# EAGLE library part LM22675 (library national-semi)
SIMPLE SWITCHER® 1A Step-Down Voltage Regulator
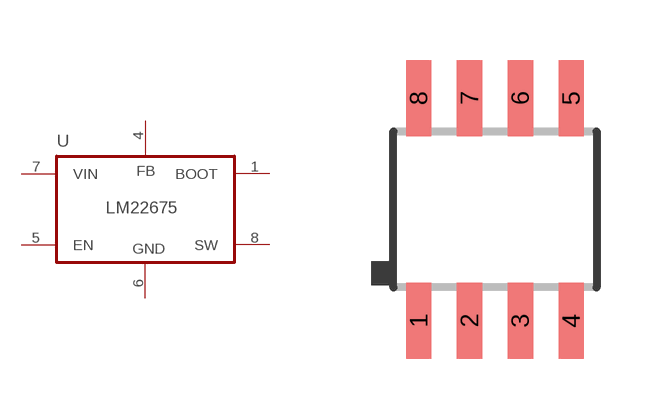
[diagram p4: symbol with the pads of PSOP8; footprint PSOP8]

Designator prefix U

## LM22675  [PSOP8]
1  BOOT  pas
4  FB  pas
5  EN  pas
6  GND  pwr
7  VIN  in
8  SW  out

## Footprint PSOP8 (pad centres in mm)
8-Lead Plastic PSOP-8 NS Package Number MRA08B
smd 0.635 x 1.905: 1 -1.905,-2.781; 2 -0.635,-2.781; 3 0.635,-2.781; 4 1.905,-2.781; 5 1.905,2.781; 6 0.635,2.781; 7 -0.635,2.781; 8 -1.905,2.781